# Altium footprint library NCR321PASX.PcbLib: 1 footprints
Each footprint in its own frame and in the unit in brackets; x right, y up, seen from the top. Pads: shape width x height; smd on the part's side, far side on the other; paste and mask are expansions set on the pad; w line width, h text height; cw(c..) or ccw(c..) is an arc to the next point about the centre after c.
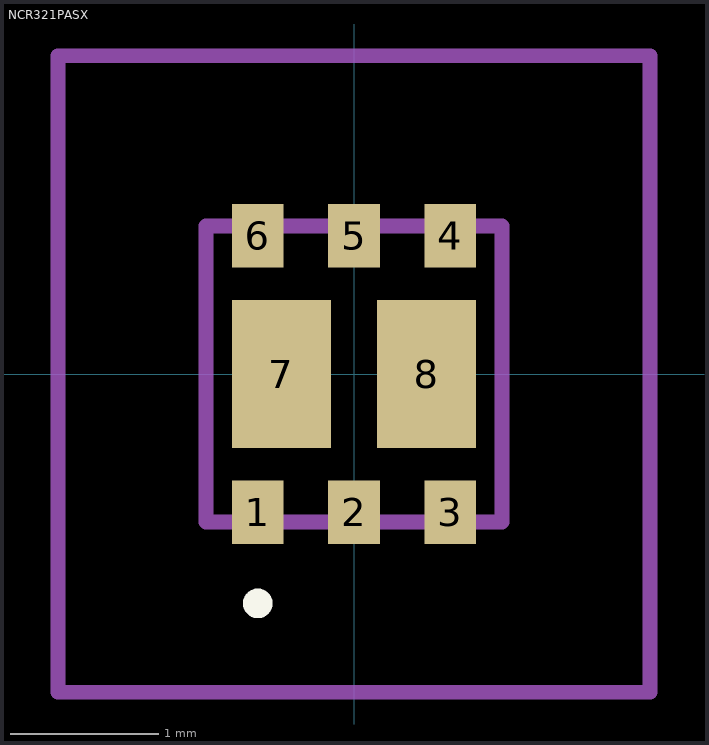
[diagram p0: the footprint, top view; thin cyan lines are the x and y axes]

## NCR321PASX [mm]
pads (8):
  rect 0.35x0.43 smd: 1(-0.65,-0.935) 2(0,-0.935) 3(0.65,-0.935) 4(0.65,0.935) 5(0,0.935) 6(-0.65,0.935)
  rect 0.67x1 smd: 7(-0.49,0) 8(0.49,0)
Top Overlay:
  lines w0.1: -0.65,-1.6 cw(c-0.65,-1.55) -0.65,-1.5 ; -0.65,-1.6 -0.65,-1.6 ; -0.65,-1.6 ccw(c-0.65,-1.55) -0.65,-1.5 ; -0.65,-1.5 -0.65,-1.5
Mechanical 15:
  lines w0.1: -1,-1 1,-1 1,1 -1,1 -1,-1
Mechanical 20:
  lines w0.1: -2,-2.15 2,-2.15 2,2.15 -2,2.15 -2,-2.15